# EAGLE library part LORA (library lora-xl1276-8)
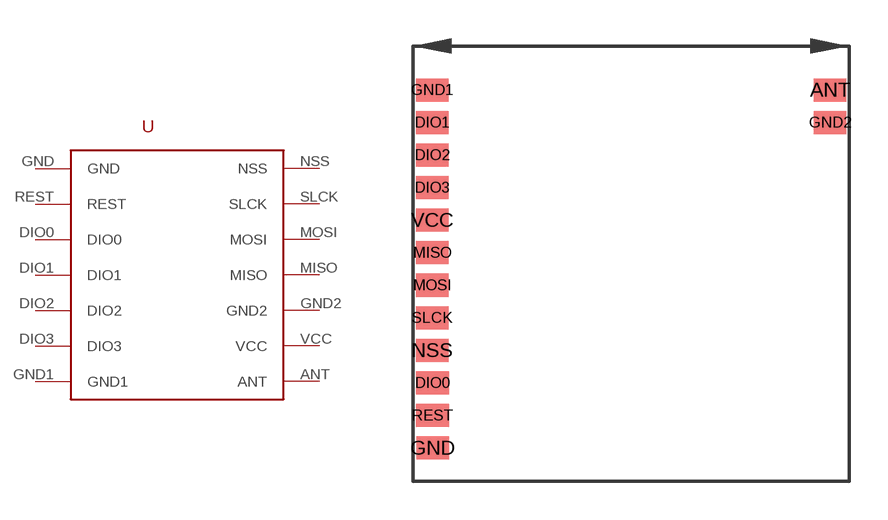
[diagram p0: symbol with the pads of LORAXL1276/78; footprint LORAXL1276/78]

Designator prefix -

## LORA  [LORAXL1276/78]
ANT  ANT
DIO0  DIO0
DIO1  DIO1
DIO2  DIO2
DIO3  DIO3
GND  GND
GND1  GND1
GND2  GND2
MISO  MISO
MOSI  MOSI
NSS  NSS
REST  REST
SLCK  SLCK
VCC  VCC

## Footprint LORAXL1276/78 (pad centres in mm)
smd 1.27 x 0.9: ANT 7.09,7.51; DIO0 -8.42,-3.92; DIO1 -8.43,6.24; DIO2 -8.43,4.97; DIO3 -8.43,3.7; GND -8.41,-6.46; GND1 -8.43,7.51; GND2 7.09,6.24; MISO -8.43,1.16; MOSI -8.43,-0.11; NSS -8.43,-2.65; REST -8.42,-5.19; SLCK -8.43,-1.38; VCC -8.43,2.43